# Altium schematic symbol library SHEX.SchLib: 1 symbol
Pins are listed as number, name and electrical type; pins without a type are passive.

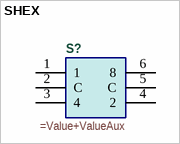
[diagram p0: symbol SHEX]

## SHEX
designator S?
=Description
pins: 1, 2 C, 3 4, 4 2, 5 C, 6 8